# Altium footprint library Speaker.PcbLib: 2 footprints
Each footprint in its own frame and in the unit in brackets; x right, y up, seen from the top. Pads: shape width x height; smd on the part's side, far side on the other; paste and mask are expansions set on the pad; w line width, h text height; cw(c..) or ccw(c..) is an arc to the next point about the centre after c.
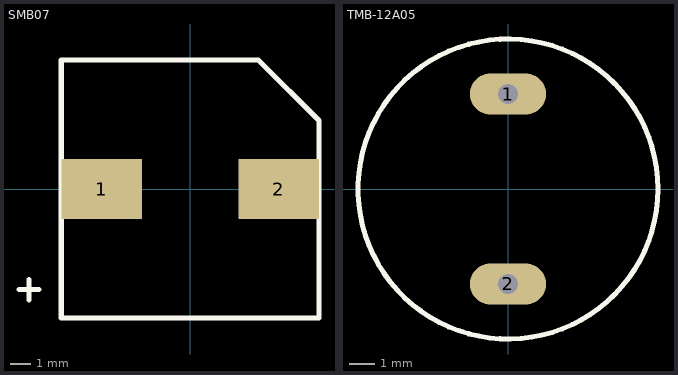
[diagram p0: the footprints below, top view; thin cyan lines are the x and y axes]

## SMB07 [mm]
pads (2):
  rect 4x3 smd: 1(-4.4,0) 2(4.4,0)
Top Overlay:
  lines w0.254: -8.5,-5 -7.5,-5 ; -8,-5.5 -8,-4.5 ; -6.4,-6.4 6.4,-6.4 6.4,3.4 3.4,6.4 -6.4,6.4 -6.4,-6.4
3D body: height 6.5, standoff 0, extent -6.401,-6.401 6.401,6.401

## TMB-12A05 [mil]
pads (2):
  oval 120x65 hole 32: 1(0,149.61) 2(0,-149.61)
Top Overlay:
  circle w8: c0,0 r236.22
3D body: height 379.92, standoff -177.17, extent -236.22,-236.21 236.22,372.21